# Altium footprint library DE-010824.PcbLib: 122 footprints (part 5 of 8)
Each footprint in its own frame and in the unit in brackets; x right, y up, seen from the top. Pads: shape width x height; smd on the part's side, far side on the other; paste and mask are expansions set on the pad; w line width, h text height; cw(c..) or ccw(c..) is an arc to the next point about the centre after c.
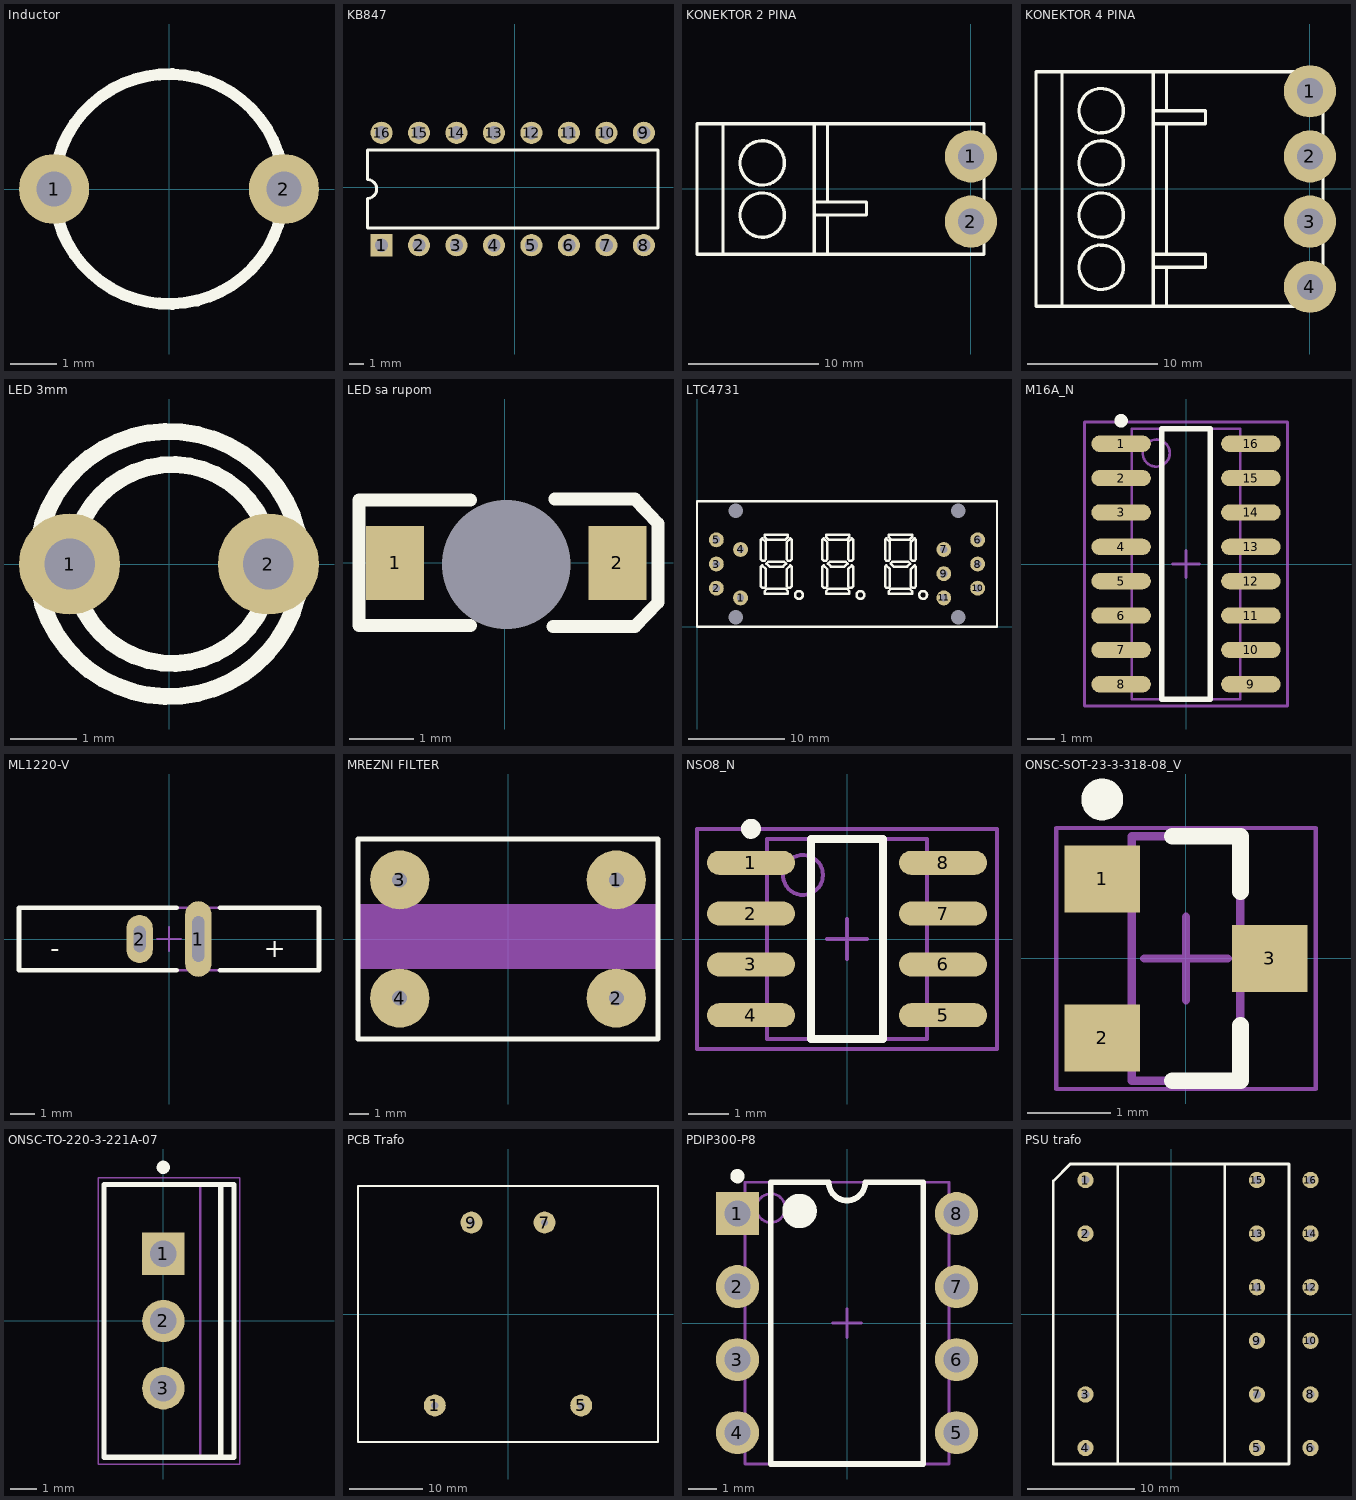
[diagram p4: the footprints below, top view; thin cyan lines are the x and y axes]

## Inductor [mil] "Filter inductor 100uH"
height 314.96
pads (2):
  round 60 hole 30: 1(-98.43,0) 2(98.43,0)
Top Overlay:
  circle w10: c0,0 r98.43
3D body: height 314.96, standoff 0, extent -97.65,-98.23 98.43,98.23

## KB847 [mm] "4 pack optocoupler"
height 0.127
pads (16):
  rect 1.5x1.5 hole 0.9: 1(-9.017,-3.937)
  round 1.5 hole 0.9: 2(-6.477,-3.937) 3(-3.937,-3.937) 4(-1.397,-3.937) 5(1.143,-3.937) 6(3.683,-3.937) 7(6.223,-3.937) 8(8.763,-3.937) 9(8.763,3.683) 10(6.223,3.683) 11(3.683,3.683) 12(1.143,3.683) 13(-1.397,3.683) 14(-3.937,3.683) 15(-6.477,3.683) 16(-9.017,3.683)
Top Overlay:
  lines w0.2: -9.977,-2.777 -9.977,-0.762 ccw(c-9.977,-0.127) -9.977,0.508 -9.977,2.523 9.723,2.523 9.723,-2.777 -9.977,-2.777
3D body: height 3.5, standoff 1.5, extent -10.033,-2.794 9.728,2.54

## KONEKTOR 2 PINA [mm] "Razdvojivi konektor 2 pina"
height 8
pads (2):
  round 4 hole 2: 1(0,2.5) 2(0,-2.5)
Top Overlay:
  circle w0.254: c-16,2 r1.7
  circle w0.254: c-16,-2 r1.7
  lines w0.254: -19,-5 -19,5 ; -12,-5 -12,5 ; -12,-2 -8,-2 -8,-1 -12,-1 ; -11,-5 -11,-2 ; -11,-1 -11,5 ; -21,-5 1,-5 1,5 -21,5 -21,-5
3D body: height 10, standoff 0.3, extent -11.049,-5.08 1.016,5.08
3D body: height 10, standoff 0.3, extent -20.955,-4.953 -11.938,5.08
3D body: height 2, standoff 0.3, extent -20.955,-4.953 -18.923,5.08
3D body: height 7, standoff 0.3, extent -12.065,-5.016 -10.986,4.953

## KONEKTOR 4 PINA [mm] "Razdvojivi konektor 4 pina"
height 13
pads (4):
  round 4 hole 2: 1(0,7.5) 2(0,2.5) 3(0,-2.5) 4(0,-7.5)
Top Overlay:
  circle w0.254: c-16,2 r1.7
  circle w0.254: c-16,-2 r1.7
  circle w0.254: c-16,6 r1.7
  circle w0.254: c-16,-6 r1.7
  lines w0.254: -19,-9 -19,9 ; -12,-9 -12,9 ; -12,-6 -8,-6 -8,-5 -12,-5 ; -12,5 -8,5 -8,6 -12,6 ; -11,-9 -11,-6 ; -11,-5 -11,5 ; -11,6 -11,9 ; -21,-9 1,-9 1,9 -21,9 -21,-9
3D body: height 7, standoff 0.3, extent -11.938,-9.017 -10.922,9.017
3D body: height 10, standoff 0.3, extent -10.922,-9.017 1.016,9.017
3D body: height 10, standoff 0.3, extent -20.955,-9.017 -11.938,9.144

## LED 3mm [mil] "LED 3mm"
height 15
pads (2):
  round 60 hole 30: 1(-59.06,0) 2(59.06,0)
Top Overlay:
  circle w10: c0,0 r78.74
  circle w10: c1.89,0 r59.06

## LED sa rupom [mm] "SM LED; 2 Flat Leads"
height 1
pads (3):
  rect 0.9x1.15 smd: 1(-1.702,0) 2(1.753,0)
  round 0 hole 2: ""(0.025,-0.025)
Top Overlay:
  lines w0.2: -0.53,-0.975 -2.261,-0.975 -2.261,0.975 -0.53,0.975 ; 0.754,-0.991 2.025,-0.991 2.384,-0.613 2.384,0.615 2.026,0.991 0.78,0.991
Mechanical 1:
  lines w0.1: -0.2,0 0.2,0 ; 0,-0.2 0,0.2

## LTC4731 [mm] "Common Cathode 3 digits 7 segment LED display"
height 0.178
pads (15):
  round 1.54 hole 0.762: 1(4.5,3) 2(2,4) 3(2,6.5) 4(4.5,8) 5(2,9) 6(29,9) 7(25.5,8) 8(29,6.5) 9(25.5,5.5) 10(29,4) 11(25.5,3)
  round 1 hole 1.5: HOLE(4,1) HOLE(4,12) HOLE(27,1) HOLE(27,12)
Top Overlay:
  drawing of 154 lines, arcs and shapes, not listed

## M16A_N [mm] "SOIC, 16-Leads, Body 9.9x3.9mm, Pitch 1.27mm, IPC Medium Density"
height 1.75
pads (16):
  oval 2.2x0.6 smd: 1(-2.4,4.445) 2(-2.4,3.175) 3(-2.4,1.905) 4(-2.4,0.635) 5(-2.4,-0.635) 6(-2.4,-1.905) 7(-2.4,-3.175) 8(-2.4,-4.445) 9(2.4,-4.445) 10(2.4,-3.175) 11(2.4,-1.905) 12(2.4,-0.635) 13(2.4,0.635) 14(2.4,1.905) 15(2.4,3.175) 16(2.4,4.445)
Top Overlay:
  circle w0.25: c-2.4,5.295 r0.125
  lines w0.2: -0.9,-5 -0.9,5 0.9,5 0.9,-5 -0.9,-5
Mechanical 13:
  circle w0.1: c-1.1,4.1 r0.5
  lines w0.1: -2,-5 -2,5 2,5 2,-5 -2,-5
Mechanical 15:
  lines w0.1: -0.5,0 0.5,0 ; 0,-0.5 0,0.5 ; -3.75,-5.25 -3.75,5.25 3.75,5.25 3.75,-5.25 -3.75,-5.25
3D body: height 1.75, standoff 0, extent -2,-5 2,5

## ML1220-V [mm] "Battery, Thru-Hole, Vertical Disk; 2 Leads, Body 12.5 x 2.6 mm (Dia.xW typ)"
height 14.8
pads (2):
  oval 1.1x3.15 hole 0.5 slot 1.9 at 90 deg: 1(1.225,0)
  oval 1.1x2 hole 0.5 slot 1.1 at 90 deg: 2(-1.225,0)
Top Overlay:
  lines w0.2: 0.32,-1.3 -6.25,-1.3 -6.25,1.3 0.32,1.3 ; 2.13,-1.3 6.25,-1.3 6.25,1.3 2.13,1.3
  text "-" at -4.955,-0.76 h0.8
  text "+" at 3.94,-0.76 h0.8
Mechanical 13:
  lines w0.1: -6.25,-1.3 -6.25,1.3 6.25,1.3 6.25,-1.3 -6.25,-1.3
Mechanical 15:
  lines w0.1: -0.5,0 0.5,0 ; 0,-0.5 0,0.5
3D body: height 14.8, standoff 1, extent -6.249,-1.299 6.249,1.299

## MREZNI FILTER [mm] "Filter mrežnih smetnji"
height 0.381
pads (4):
  round 3 hole 0.762: 1(5.5,3) 2(5.5,-3) 3(-5.5,3) 4(-5.5,-3)
Top Overlay:
  lines w0.254: -7.62,-5.08 7.62,-5.08 7.62,5.08 -7.62,5.08 -7.62,-5.08
Mechanical 1:
  rectangle: -7.62,-1.524 7.62,1.778

## NSO8_N [mm] "SOIC, 8-Leads, Body 4.9x3.9mm, Pitch 1.27mm, IPC Medium Density"
height 1.75
pads (8):
  oval 2.2x0.6 smd: 1(-2.4,1.905) 2(-2.4,0.635) 3(-2.4,-0.635) 4(-2.4,-1.905) 5(2.4,-1.905) 6(2.4,-0.635) 7(2.4,0.635) 8(2.4,1.905)
Top Overlay:
  circle w0.25: c-2.4,2.755 r0.125
  lines w0.2: -0.9,-2.5 -0.9,2.5 0.9,2.5 0.9,-2.5 -0.9,-2.5
Mechanical 13:
  circle w0.1: c-1.1,1.6 r0.5
  lines w0.1: -2,-2.5 -2,2.5 2,2.5 2,-2.5 -2,-2.5
Mechanical 15:
  lines w0.1: -0.5,0 0.5,0 ; 0,-0.5 0,0.5 ; -3.75,-2.75 -3.75,2.75 3.75,2.75 3.75,-2.75 -3.75,-2.75
3D body: height 1.75, standoff 0, extent -2,-2.5 2,2.5

## ONSC-SOT-23-3-318-08_V [mm] "SOT23, 3-Leads, Body 2.92x1.3mm, Pitch 0.95mm"
height 1.11
pads (3):
  rect 0.9x0.8 smd: 1(-1,0.95) 2(-1,-0.95) 3(1,0)
Top Overlay:
  circle w0.25: c-1,1.9 r0.125
  lines w0.2: -0.165,-1.46 0.65,-1.46 0.65,-0.8 ; -0.165,1.46 0.65,1.46 0.65,0.8
Mechanical 13:
  lines w0.1: -0.65,-1.46 0.65,-1.46 0.65,1.46 -0.65,1.46 -0.65,-1.46
Mechanical 15:
  lines w0.05: -1.55,-1.56 1.55,-1.56 1.55,1.56 -1.55,1.56 -1.55,-1.56
  lines w0.1: -0.5,0 0.5,0 ; 0,-0.5 0,0.5
3D body: height 1.11, standoff 0.01, extent -0.65,-1.46 0.65,1.46

## ONSC-TO-220-3-221A-07 [mm] "FM, 3-Leads, Body 10.3x4.85mm, Pitch 2.54mm"
height 19.68
pads (3):
  rect 1.6x1.6 hole 1: 1(0,2.54)
  round 1.6 hole 1: 2(0,0) 3(0,-2.54)
Top Overlay:
  circle w0.25: c0,5.8 r0.125
  lines w0.2: 2.165,-5.15 2.165,5.15 ; -2.235,-5.15 2.665,-5.15 2.665,5.15 -2.235,5.15 -2.235,-5.15
Mechanical 13:
  lines w0.1: 1.39,-5.15 1.39,5.15 ; -2.21,-5.15 -2.21,5.15 2.64,5.15 2.64,-5.15 -2.21,-5.15
Mechanical 15:
  lines w0.05: -2.46,-5.4 -2.46,5.4 2.89,5.4 2.89,-5.4 -2.46,-5.4
  lines w0.1: -0.5,0 0.5,0 ; 0,-0.5 0,0.5
3D body: height 2.8, standoff 0, extent -0.23,1.87 0.23,3.21
3D body: height 0, standoff -1.6, extent -0.23,2.16 0.23,2.92
3D body: height 2.8, standoff 0, extent -0.23,-0.67 0.23,0.67
3D body: height 0, standoff -1.6, extent -0.23,-0.38 0.23,0.38
3D body: height 2.8, standoff 0, extent -0.23,-3.21 0.23,-1.87
3D body: height 0, standoff -1.6, extent -0.23,-2.92 0.23,-2.16
3D body: height 13.48, standoff 2.8, extent -2.21,-5.15 2.64,5.15
3D body: height 15.06, standoff 13.48, extent 1.39,-4.975 2.64,4.975
3D body: height 15.1, standoff 15.06, extent 1.39,0.356 2.64,4.975
3D body: height 15.1, standoff 15.06, extent 1.39,-4.975 2.64,-0.356
3D body: height 18.71, standoff 18.67, extent 1.39,0.356 2.64,4.975
3D body: height 18.71, standoff 18.67, extent 1.39,-4.975 2.64,-0.356
3D body: height 15.2, standoff 15.09, extent 1.39,0.698 2.64,4.975
3D body: height 15.2, standoff 15.09, extent 1.39,-4.975 2.64,-0.698
3D body: height 18.67, standoff 18.57, extent 1.39,0.698 2.64,4.975
3D body: height 18.67, standoff 18.57, extent 1.39,-4.975 2.64,-0.698
3D body: height 15.37, standoff 15.19, extent 1.39,1.014 2.64,4.975
3D body: height 15.37, standoff 15.19, extent 1.39,-4.975 2.64,-1.014
3D body: height 18.57, standoff 18.4, extent 1.39,1.014 2.64,4.975
3D body: height 18.57, standoff 18.4, extent 1.39,-4.975 2.64,-1.014
3D body: height 15.59, standoff 15.36, extent 1.39,1.29 2.64,4.975
3D body: height 15.59, standoff 15.36, extent 1.39,-4.975 2.64,-1.29
3D body: height 18.4, standoff 18.17, extent 1.39,1.29 2.64,4.975
3D body: height 18.4, standoff 18.17, extent 1.39,-4.975 2.64,-1.29
3D body: height 15.87, standoff 15.59, extent 1.39,1.517 2.64,4.975
3D body: height 15.87, standoff 15.59, extent 1.39,-4.975 2.64,-1.517
3D body: height 18.18, standoff 17.89, extent 1.39,1.517 2.64,4.975
3D body: height 18.18, standoff 17.89, extent 1.39,-4.975 2.64,-1.517
3D body: height 16.19, standoff 15.87, extent 1.39,1.686 2.64,4.975
3D body: height 16.19, standoff 15.87, extent 1.39,-4.975 2.64,-1.686
3D body: height 17.9, standoff 17.58, extent 1.39,1.686 2.64,4.975
3D body: height 17.9, standoff 17.58, extent 1.39,-4.975 2.64,-1.686
3D body: height 16.53, standoff 16.18, extent 1.39,1.79 2.64,4.975
3D body: height 16.53, standoff 16.18, extent 1.39,-4.975 2.64,-1.79
3D body: height 17.58, standoff 17.24, extent 1.39,1.79 2.64,4.975
3D body: height 17.58, standoff 17.24, extent 1.39,-4.975 2.64,-1.79
3D body: height 16.88, standoff 16.52, extent 1.39,1.825 2.64,4.975
3D body: height 16.88, standoff 16.52, extent 1.39,-4.975 2.64,-1.825
3D body: height 17.24, standoff 16.88, extent 1.39,1.825 2.64,4.975
3D body: height 17.24, standoff 16.88, extent 1.39,-4.975 2.64,-1.825
3D body: height 19.68, standoff 18.71, extent 1.39,-4.975 2.64,4.975

## PCB Trafo [mm] "PCB Trafo 220Vac / 15Vac , 4,5VA"
height 28
pads (4):
  round 3 hole 1: 1(-10,-12.5) 5(10,-12.5) 7(5,12.5) 9(-5,12.5)
Top Overlay:
  lines w0.254: -20.5,-17.5 20.5,-17.5 20.5,17.5 -20.5,17.5 -20.5,-17.5
3D body: height 37.6, standoff 0.06, extent -20.574,-17.526 20.447,17.526
3D body: height 42.8, standoff 0, extent -14.605,-11.684 14.859,11.557

## PDIP300-P8 [mm] "DIP, 8-Leads, Row Spacing 7.62mm, Pitch 2.54mm, Body 9.5x6.6mm"
height 5.34
pads (8):
  rect 1.5x1.5 hole 0.9: 1(-3.81,3.81)
  round 1.5 hole 0.9: 2(-3.81,1.27) 3(-3.81,-1.27) 4(-3.81,-3.81) 5(3.81,-3.81) 6(3.81,-1.27) 7(3.81,1.27) 8(3.81,3.81)
Top Overlay:
  circle w0.6: c-1.65,3.9 r0.3
  circle w0.25: c-3.81,5.11 r0.125
  lines w0.2: -2.65,-4.9 2.65,-4.9 2.65,4.9 0.635,4.9 cw(c0,4.9) -0.635,4.9 -2.65,4.9 -2.65,-4.9
Mechanical 13:
  circle w0.1: c-2.65,4 r0.5
  lines w0.1: -3.55,-4.9 3.55,-4.9 3.55,4.9 -3.55,4.9 -3.55,-4.9
Mechanical 15:
  lines w0.1: -0.5,0 0.5,0 ; 0,-0.5 0,0.5
3D body: height 5.34, standoff 0, extent -3.55,-4.9 3.55,4.9

## PSU trafo [mil] "SMPSU feritni trafo"
height 984.25
pads (16):
  round 60 hole 30: 1(-314.96,492.13) 2(-314.96,295.28) 3(-314.96,-295.28) 4(-314.96,-492.13) 5(314.96,-492.13) 6(511.81,-492.13) 7(314.96,-295.28) 8(511.81,-295.28) 9(314.96,-98.43) 10(511.81,-98.43) 11(314.96,98.43) 12(511.81,98.43) 13(314.96,295.28) 14(511.81,295.28) 15(314.96,492.13) 16(511.81,492.13)
Top Overlay:
  lines w10: -371,551 -433.07,488.93 -433.07,-551.18 433.07,-551.18 433.07,551 ; -371,551.18 433.07,551.18 ; -196.85,-551.18 -196.85,551.18 196.85,551.18 196.85,-551.18 -196.85,-551.18
3D body: height 944.88, standoff 196.85, extent -250,-550 250,550
3D body: height 787.4, standoff 196.85, extent -430,-400 -250,400
3D body: height 787.4, standoff 196.85, extent 250,-400 430,400